# Altium schematic symbol library AMS.SchLib: 2 symbols
Pins are listed as number, name and electrical type; pins without a type are passive.

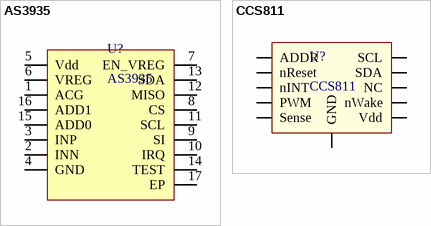
[diagram p0: symbols AS3935 to CCS811]

## AS3935
designator U?
Value: AS3935
footprint QFN 16 4x4 0.65p
pins: 1 ACG, 2 INN, 3 INP, 4 GND, 5 Vdd, 6 VREG, 7 EN_VREG, 8 CS, 9 SI, 10 IRQ, 11 SCL, 12 MISO, 13 SDA, 14 TEST, 15 ADD0, 16 ADD1, 17 EP

## CCS811
designator U?
AMS CCS811 VOC sensor; Manufacturer: AMS; Part Number: CCS811
footprint CCS811 (AMS CCS811 VOC sensor)
pins: 1 ADDR, 2 nReset, 3 nINT, 4 PWM, 5 Sense, 6 Vdd, 7 nWake, 8 NC, 9 SDA, 10 SCL, 11 GND